# Altium footprint library NeoPixel.PcbLib: 1 footprints
Each footprint in its own frame and in the unit in brackets; x right, y up, seen from the top. Pads: shape width x height; smd on the part's side, far side on the other; paste and mask are expansions set on the pad; w line width, h text height; cw(c..) or ccw(c..) is an arc to the next point about the centre after c.
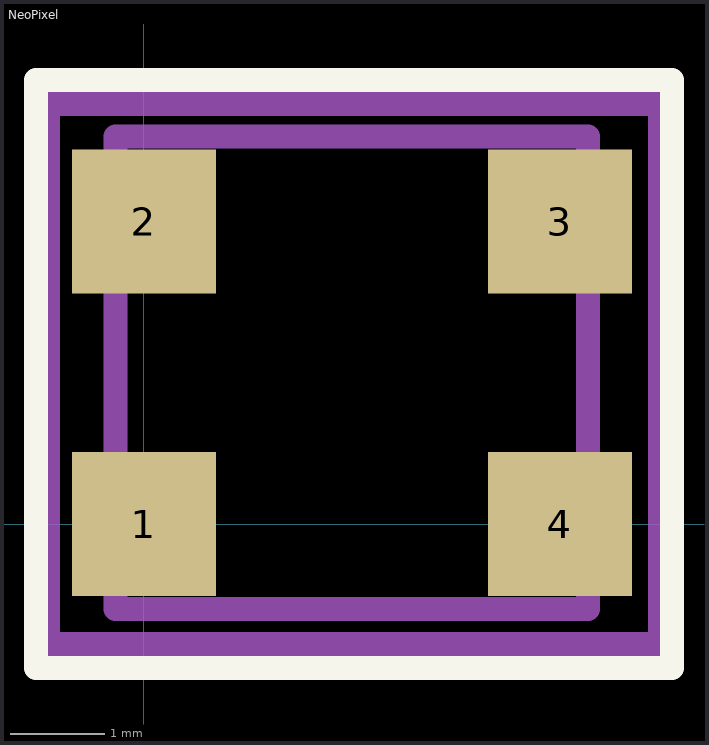
[diagram p0: the footprint, top view; thin cyan lines are the x and y axes]

## NeoPixel [mil]
pads (4):
  rect 60x60 smd: 1(0,0) 2(0,125.98) 3(173.23,125.98) 4(173.23,0)
Top Overlay:
  lines w10: -45,-60 -45,185 220,185 220,-60 -45,-60
Mechanical 1:
  lines w10: -11.81,-35.43 -11.81,161.42 185.04,161.42 185.04,-35.43 -11.81,-35.43
  text ".Designator" at 110,-45 h60
Mechanical 15:
  lines w10: -40,-50 -40,175 215,175 215,-50 -40,-50
3D body: height 62.99, standoff 0, extent -10,-35 185,160